# Altium footprint library Connector_PinHeader_2.54mm.PcbLib: 278 footprints (part 15 of 18)
Each footprint in its own frame and in the unit in brackets; x right, y up, seen from the top. Pads: shape width x height; smd on the part's side, far side on the other; paste and mask are expansions set on the pad; w line width, h text height; cw(c..) or ccw(c..) is an arc to the next point about the centre after c.
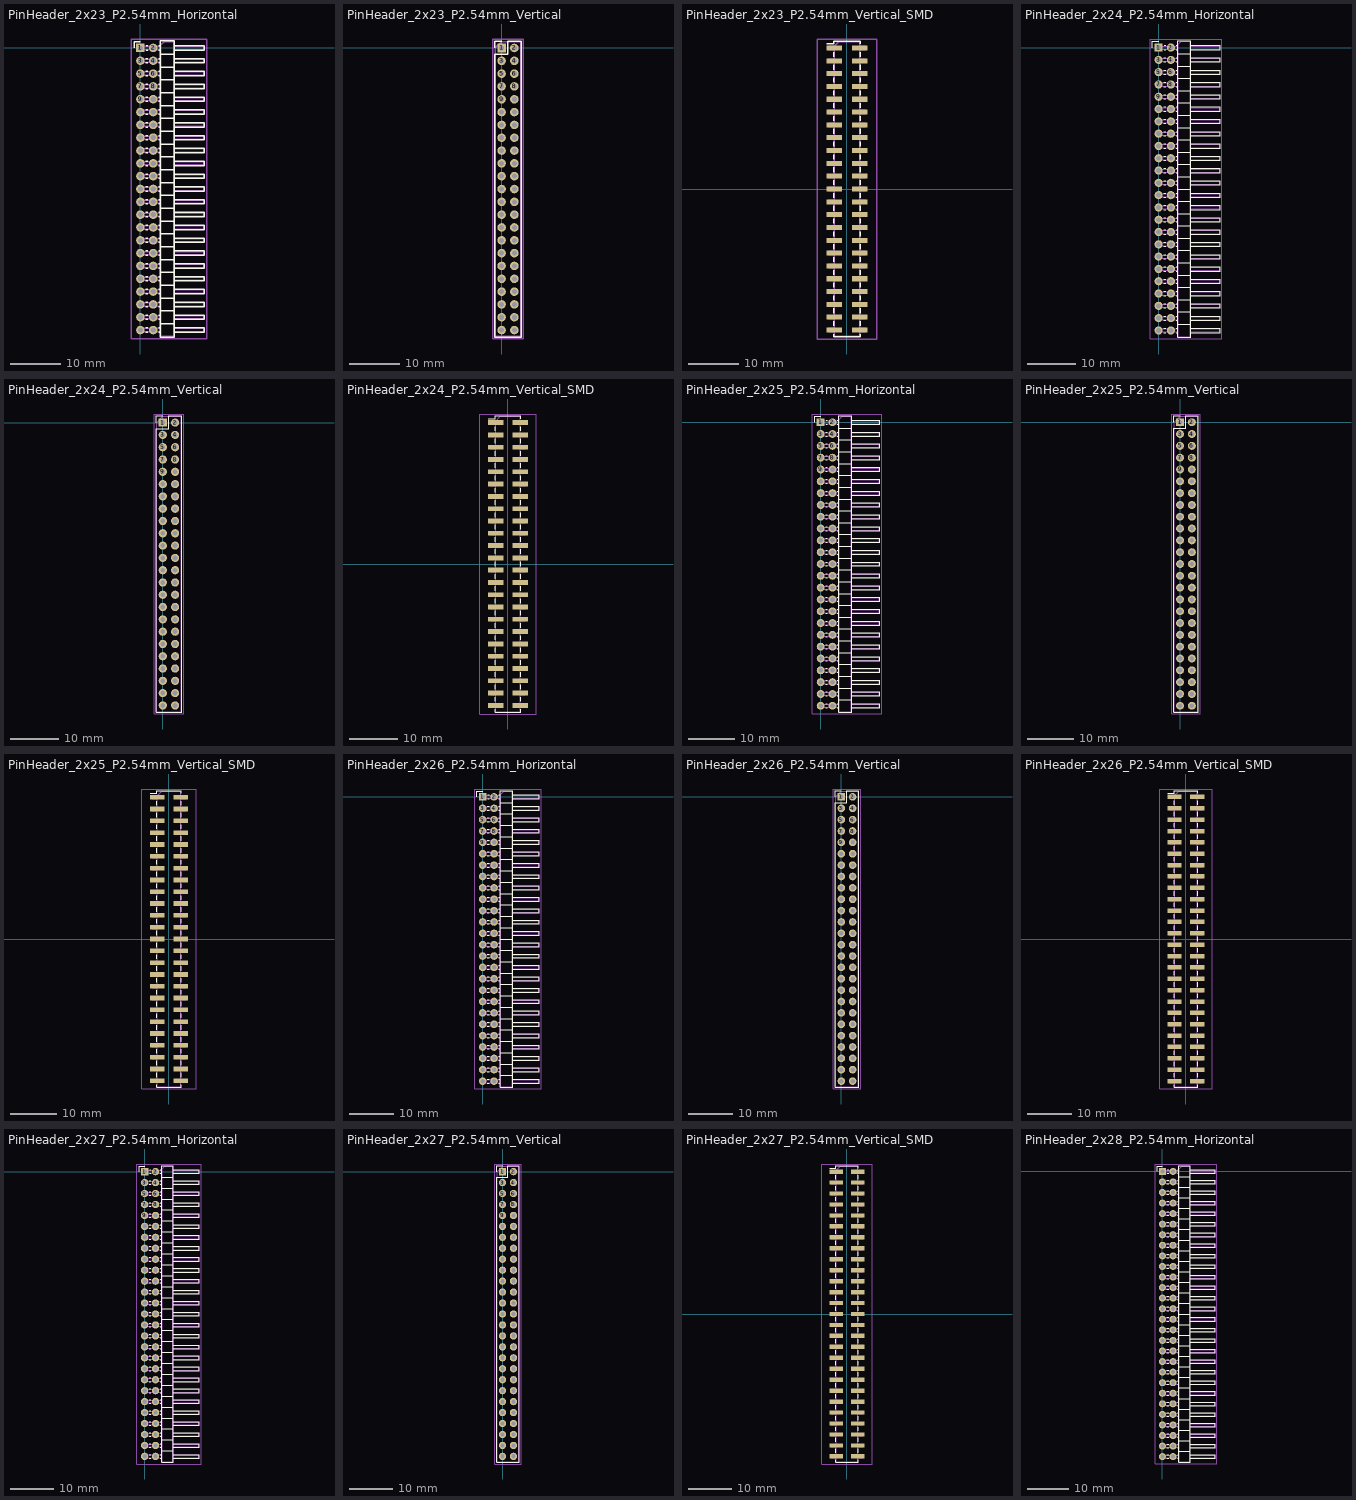
[diagram p14: the footprints below, top view; thin cyan lines are the x and y axes]

## PinHeader_2x23_P2.54mm_Horizontal [mm]
pads (46):
  rect 1.7x1.7 hole 1: 1(0,0)
  round 1.7 hole 1: 2(2.54,0) 3(0,-2.54) 4(2.54,-2.54) 5(0,-5.08) 6(2.54,-5.08) 7(0,-7.62) 8(2.54,-7.62) 9(0,-10.16) 10(2.54,-10.16) 11(0,-12.7) 12(2.54,-12.7) 13(0,-15.24) 14(2.54,-15.24) 15(0,-17.78) 16(2.54,-17.78) 17(0,-20.32) 18(2.54,-20.32) 19(0,-22.86) 20(2.54,-22.86) 21(0,-25.4) 22(2.54,-25.4) 23(0,-27.94) 24(2.54,-27.94) 25(0,-30.48) 26(2.54,-30.48) 27(0,-33.02) 28(2.54,-33.02) 29(0,-35.56) 30(2.54,-35.56) 31(0,-38.1) 32(2.54,-38.1) 33(0,-40.64) 34(2.54,-40.64) 35(0,-43.18) 36(2.54,-43.18) 37(0,-45.72) 38(2.54,-45.72) 39(0,-48.26) 40(2.54,-48.26) 41(0,-50.8) 42(2.54,-50.8) 43(0,-53.34) 44(2.54,-53.34) 45(0,-55.88) 46(2.54,-55.88)
F.SilkS:
  drawing of 190 lines, arcs and shapes, not listed
Top Assembly:
  lines w0.254: 4.04,-56.2 -0.32,-56.2 -0.32,-55.56 4.04,-55.56 ; 4.04,-53.66 -0.32,-53.66 -0.32,-53.02 4.04,-53.02 ; 4.04,-51.12 -0.32,-51.12 -0.32,-50.48 4.04,-50.48 ; 4.04,-48.58 -0.32,-48.58 -0.32,-47.94 4.04,-47.94 ; 4.04,-46.04 -0.32,-46.04 -0.32,-45.4 4.04,-45.4 ; 4.04,-43.5 -0.32,-43.5 -0.32,-42.86 4.04,-42.86 ; 4.04,-40.96 -0.32,-40.96 -0.32,-40.32 4.04,-40.32 ; 4.04,-38.42 -0.32,-38.42 -0.32,-37.78 4.04,-37.78 ; 4.04,-35.88 -0.32,-35.88 -0.32,-35.24 4.04,-35.24 ; 4.04,-33.34 -0.32,-33.34 -0.32,-32.7 4.04,-32.7 ; 4.04,-30.8 -0.32,-30.8 -0.32,-30.16 4.04,-30.16 ; 4.04,-28.26 -0.32,-28.26 -0.32,-27.62 4.04,-27.62 ; 4.04,-25.72 -0.32,-25.72 -0.32,-25.08 4.04,-25.08 ; 4.04,-23.18 -0.32,-23.18 -0.32,-22.54 4.04,-22.54 ; 4.04,-20.64 -0.32,-20.64 -0.32,-20 4.04,-20 ; 4.04,-18.1 -0.32,-18.1 -0.32,-17.46 4.04,-17.46 ; 4.04,-15.56 -0.32,-15.56 -0.32,-14.92 4.04,-14.92 ; 4.04,-13.02 -0.32,-13.02 -0.32,-12.38 4.04,-12.38 ; 4.04,-10.48 -0.32,-10.48 -0.32,-9.84 4.04,-9.84 ; 4.04,-7.94 -0.32,-7.94 -0.32,-7.3 4.04,-7.3 ; 4.04,-5.4 -0.32,-5.4 -0.32,-4.76 4.04,-4.76 ; 4.04,-2.86 -0.32,-2.86 -0.32,-2.22 4.04,-2.22 ; 4.04,-0.32 -0.32,-0.32 -0.32,0.32 4.04,0.32 ; 6.58,-56.2 12.58,-56.2 12.58,-55.56 6.58,-55.56 ; 6.58,-53.66 12.58,-53.66 12.58,-53.02 6.58,-53.02 ; 6.58,-51.12 12.58,-51.12 12.58,-50.48 6.58,-50.48 ; 6.58,-48.58 12.58,-48.58 12.58,-47.94 6.58,-47.94 ; 6.58,-46.04 12.58,-46.04 12.58,-45.4 6.58,-45.4 ; 6.58,-43.5 12.58,-43.5 12.58,-42.86 6.58,-42.86 ; 6.58,-40.96 12.58,-40.96 12.58,-40.32 6.58,-40.32 ; 6.58,-38.42 12.58,-38.42 12.58,-37.78 6.58,-37.78 ; 6.58,-35.88 12.58,-35.88 12.58,-35.24 6.58,-35.24 ; 6.58,-33.34 12.58,-33.34 12.58,-32.7 6.58,-32.7 ; 6.58,-30.8 12.58,-30.8 12.58,-30.16 6.58,-30.16 ; 6.58,-28.26 12.58,-28.26 12.58,-27.62 6.58,-27.62 ; 6.58,-25.72 12.58,-25.72 12.58,-25.08 6.58,-25.08 ; 6.58,-23.18 12.58,-23.18 12.58,-22.54 6.58,-22.54 ; 6.58,-20.64 12.58,-20.64 12.58,-20 6.58,-20 ; 6.58,-18.1 12.58,-18.1 12.58,-17.46 6.58,-17.46 ; 6.58,-15.56 12.58,-15.56 12.58,-14.92 6.58,-14.92 ; 6.58,-13.02 12.58,-13.02 12.58,-12.38 6.58,-12.38 ; 6.58,-10.48 12.58,-10.48 12.58,-9.84 6.58,-9.84 ; 6.58,-7.94 12.58,-7.94 12.58,-7.3 6.58,-7.3 ; 6.58,-5.4 12.58,-5.4 12.58,-4.76 6.58,-4.76 ; 6.58,-2.86 12.58,-2.86 12.58,-2.22 6.58,-2.22 ; 6.58,-0.32 12.58,-0.32 12.58,0.32 6.58,0.32 ; 4.04,-57.15 6.58,-57.15 6.58,1.27 4.675,1.27 4.04,0.635 4.04,-57.15
  text "'.Designator'" at 6.15,-31.987 h1
Top Courtyard:
  lines w0.254: -1.77,-57.65 13.09,-57.65 13.09,1.77 -1.77,1.77 -1.77,-57.65
Top Designator:
  text ".Designator" at -1.958,-28.448 h1.52

## PinHeader_2x23_P2.54mm_Vertical [mm]
pads (46):
  rect 1.7x1.7 hole 1: 1(0,0)
  round 1.7 hole 1: 2(2.54,0) 3(0,-2.54) 4(2.54,-2.54) 5(0,-5.08) 6(2.54,-5.08) 7(0,-7.62) 8(2.54,-7.62) 9(0,-10.16) 10(2.54,-10.16) 11(0,-12.7) 12(2.54,-12.7) 13(0,-15.24) 14(2.54,-15.24) 15(0,-17.78) 16(2.54,-17.78) 17(0,-20.32) 18(2.54,-20.32) 19(0,-22.86) 20(2.54,-22.86) 21(0,-25.4) 22(2.54,-25.4) 23(0,-27.94) 24(2.54,-27.94) 25(0,-30.48) 26(2.54,-30.48) 27(0,-33.02) 28(2.54,-33.02) 29(0,-35.56) 30(2.54,-35.56) 31(0,-38.1) 32(2.54,-38.1) 33(0,-40.64) 34(2.54,-40.64) 35(0,-43.18) 36(2.54,-43.18) 37(0,-45.72) 38(2.54,-45.72) 39(0,-48.26) 40(2.54,-48.26) 41(0,-50.8) 42(2.54,-50.8) 43(0,-53.34) 44(2.54,-53.34) 45(0,-55.88) 46(2.54,-55.88)
F.SilkS:
  lines w0.254: -1.38,0 -1.38,1.38 0,1.38 ; -1.38,-57.26 3.92,-57.26 3.92,1.38 1.27,1.38 1.27,-1.27 -1.38,-1.27 -1.38,-57.26
Top Assembly:
  lines w0.254: -1.27,-57.15 3.81,-57.15 3.81,1.27 0,1.27 -1.27,0 -1.27,-57.15
  text "'.Designator'" at 2.11,-31.987 h1
Top Courtyard:
  lines w0.254: -1.77,-57.65 4.32,-57.65 4.32,1.78 -1.77,1.78 -1.77,-57.65
Top Designator:
  text ".Designator" at -6.343,-28.443 h1.52

## PinHeader_2x23_P2.54mm_Vertical_SMD [mm]
pads (46):
  rect 3.15x1 smd: 1(-2.525,27.94) 2(2.525,27.94) 3(-2.525,25.4) 4(2.525,25.4) 5(-2.525,22.86) 6(2.525,22.86) 7(-2.525,20.32) 8(2.525,20.32) 9(-2.525,17.78) 10(2.525,17.78) 11(-2.525,15.24) 12(2.525,15.24) 13(-2.525,12.7) 14(2.525,12.7) 15(-2.525,10.16) 16(2.525,10.16) 17(-2.525,7.62) 18(2.525,7.62) 19(-2.525,5.08) 20(2.525,5.08) 21(-2.525,2.54) 22(2.525,2.54) 23(-2.525,0) 24(2.525,0) 25(-2.525,-2.54) 26(2.525,-2.54) 27(-2.525,-5.08) 28(2.525,-5.08) 29(-2.525,-7.62) 30(2.525,-7.62) 31(-2.525,-10.16) 32(2.525,-10.16) 33(-2.525,-12.7) 34(2.525,-12.7) 35(-2.525,-15.24) 36(2.525,-15.24) 37(-2.525,-17.78) 38(2.525,-17.78) 39(-2.525,-20.32) 40(2.525,-20.32) 41(-2.525,-22.86) 42(2.525,-22.86) 43(-2.525,-25.4) 44(2.525,-25.4) 45(-2.525,-27.94) 46(2.525,-27.94)
F.SilkS:
  lines w0.254: -4.04,28.75 -2.65,28.75 -2.65,29.32 2.65,29.32 2.65,28.75 ; -2.65,-28.75 -2.65,-29.32 2.65,-29.32 2.65,-28.75 ; -2.65,-27.13 -2.65,-26.21 ; -2.65,-24.59 -2.65,-23.67 ; -2.65,-22.05 -2.65,-21.13 ; -2.65,-19.51 -2.65,-18.59 ; -2.65,-16.97 -2.65,-16.05 ; -2.65,-14.43 -2.65,-13.51 ; -2.65,-11.89 -2.65,-10.97 ; -2.65,-9.35 -2.65,-8.43 ; -2.65,-6.81 -2.65,-5.89 ; -2.65,-4.27 -2.65,-3.35 ; -2.65,-1.73 -2.65,-0.81 ; -2.65,0.81 -2.65,1.73 ; -2.65,3.35 -2.65,4.27 ; -2.65,5.89 -2.65,6.81 ; -2.65,8.43 -2.65,9.35 ; -2.65,10.97 -2.65,11.89 ; -2.65,13.51 -2.65,14.43 ; -2.65,16.05 -2.65,16.97 ; -2.65,18.59 -2.65,19.51 ; -2.65,21.13 -2.65,22.05 ; -2.65,23.67 -2.65,24.59 ; -2.65,26.21 -2.65,27.13 ; 2.65,-27.13 2.65,-26.21 ; 2.65,-24.59 2.65,-23.67 ; 2.65,-22.05 2.65,-21.13 ; 2.65,-19.51 2.65,-18.59 ; 2.65,-16.97 2.65,-16.05 ; 2.65,-14.43 2.65,-13.51 ; 2.65,-11.89 2.65,-10.97 ; 2.65,-9.35 2.65,-8.43 ; 2.65,-6.81 2.65,-5.89 ; 2.65,-4.27 2.65,-3.35 ; 2.65,-1.73 2.65,-0.81 ; 2.65,0.81 2.65,1.73 ; 2.65,3.35 2.65,4.27 ; 2.65,5.89 2.65,6.81 ; 2.65,8.43 2.65,9.35 ; 2.65,10.97 2.65,11.89 ; 2.65,13.51 2.65,14.43 ; 2.65,16.05 2.65,16.97 ; 2.65,18.59 2.65,19.51 ; 2.65,21.13 2.65,22.05 ; 2.65,23.67 2.65,24.59 ; 2.65,26.21 2.65,27.13
Top Assembly:
  lines w0.254: -2.54,-28.26 -3.6,-28.26 -3.6,-27.62 -2.54,-27.62 ; -2.54,-25.72 -3.6,-25.72 -3.6,-25.08 -2.54,-25.08 ; -2.54,-23.18 -3.6,-23.18 -3.6,-22.54 -2.54,-22.54 ; -2.54,-20.64 -3.6,-20.64 -3.6,-20 -2.54,-20 ; -2.54,-18.1 -3.6,-18.1 -3.6,-17.46 -2.54,-17.46 ; -2.54,-15.56 -3.6,-15.56 -3.6,-14.92 -2.54,-14.92 ; -2.54,-13.02 -3.6,-13.02 -3.6,-12.38 -2.54,-12.38 ; -2.54,-10.48 -3.6,-10.48 -3.6,-9.84 -2.54,-9.84 ; -2.54,-7.94 -3.6,-7.94 -3.6,-7.3 -2.54,-7.3 ; -2.54,-5.4 -3.6,-5.4 -3.6,-4.76 -2.54,-4.76 ; -2.54,-2.86 -3.6,-2.86 -3.6,-2.22 -2.54,-2.22 ; -2.54,-0.32 -3.6,-0.32 -3.6,0.32 -2.54,0.32 ; -2.54,2.22 -3.6,2.22 -3.6,2.86 -2.54,2.86 ; -2.54,4.76 -3.6,4.76 -3.6,5.4 -2.54,5.4 ; -2.54,7.3 -3.6,7.3 -3.6,7.94 -2.54,7.94 ; -2.54,9.84 -3.6,9.84 -3.6,10.48 -2.54,10.48 ; -2.54,12.38 -3.6,12.38 -3.6,13.02 -2.54,13.02 ; -2.54,14.92 -3.6,14.92 -3.6,15.56 -2.54,15.56 ; -2.54,17.46 -3.6,17.46 -3.6,18.1 -2.54,18.1 ; -2.54,20 -3.6,20 -3.6,20.64 -2.54,20.64 ; -2.54,22.54 -3.6,22.54 -3.6,23.18 -2.54,23.18 ; -2.54,25.08 -3.6,25.08 -3.6,25.72 -2.54,25.72 ; -2.54,27.62 -3.6,27.62 -3.6,28.26 -2.54,28.26 ; 2.54,-28.26 3.6,-28.26 3.6,-27.62 2.54,-27.62 ; 2.54,-25.72 3.6,-25.72 3.6,-25.08 2.54,-25.08 ; 2.54,-23.18 3.6,-23.18 3.6,-22.54 2.54,-22.54 ; 2.54,-20.64 3.6,-20.64 3.6,-20 2.54,-20 ; 2.54,-18.1 3.6,-18.1 3.6,-17.46 2.54,-17.46 ; 2.54,-15.56 3.6,-15.56 3.6,-14.92 2.54,-14.92 ; 2.54,-13.02 3.6,-13.02 3.6,-12.38 2.54,-12.38 ; 2.54,-10.48 3.6,-10.48 3.6,-9.84 2.54,-9.84 ; 2.54,-7.94 3.6,-7.94 3.6,-7.3 2.54,-7.3 ; 2.54,-5.4 3.6,-5.4 3.6,-4.76 2.54,-4.76 ; 2.54,-2.86 3.6,-2.86 3.6,-2.22 2.54,-2.22 ; 2.54,-0.32 3.6,-0.32 3.6,0.32 2.54,0.32 ; 2.54,2.22 3.6,2.22 3.6,2.86 2.54,2.86 ; 2.54,4.76 3.6,4.76 3.6,5.4 2.54,5.4 ; 2.54,7.3 3.6,7.3 3.6,7.94 2.54,7.94 ; 2.54,9.84 3.6,9.84 3.6,10.48 2.54,10.48 ; 2.54,12.38 3.6,12.38 3.6,13.02 2.54,13.02 ; 2.54,14.92 3.6,14.92 3.6,15.56 2.54,15.56 ; 2.54,17.46 3.6,17.46 3.6,18.1 2.54,18.1 ; 2.54,20 3.6,20 3.6,20.64 2.54,20.64 ; 2.54,22.54 3.6,22.54 3.6,23.18 2.54,23.18 ; 2.54,25.08 3.6,25.08 3.6,25.72 2.54,25.72 ; 2.54,27.62 3.6,27.62 3.6,28.26 2.54,28.26 ; -2.54,28.26 -2.54,-29.21 2.54,-29.21 2.54,29.21 -1.59,29.21 -2.54,28.26
  text "'.Designator'" at 0.84,-4.047 h1
Top Courtyard:
  lines w0.254: -5.87,-29.72 5.88,-29.72 5.88,29.72 -5.87,29.72 -5.87,-29.72
Top Designator:
  text ".Designator" at -7.613,-0.508 h1.52

## PinHeader_2x24_P2.54mm_Horizontal [mm]
pads (48):
  rect 1.7x1.7 hole 1: 1(0,0)
  round 1.7 hole 1: 2(2.54,0) 3(0,-2.54) 4(2.54,-2.54) 5(0,-5.08) 6(2.54,-5.08) 7(0,-7.62) 8(2.54,-7.62) 9(0,-10.16) 10(2.54,-10.16) 11(0,-12.7) 12(2.54,-12.7) 13(0,-15.24) 14(2.54,-15.24) 15(0,-17.78) 16(2.54,-17.78) 17(0,-20.32) 18(2.54,-20.32) 19(0,-22.86) 20(2.54,-22.86) 21(0,-25.4) 22(2.54,-25.4) 23(0,-27.94) 24(2.54,-27.94) 25(0,-30.48) 26(2.54,-30.48) 27(0,-33.02) 28(2.54,-33.02) 29(0,-35.56) 30(2.54,-35.56) 31(0,-38.1) 32(2.54,-38.1) 33(0,-40.64) 34(2.54,-40.64) 35(0,-43.18) 36(2.54,-43.18) 37(0,-45.72) 38(2.54,-45.72) 39(0,-48.26) 40(2.54,-48.26) 41(0,-50.8) 42(2.54,-50.8) 43(0,-53.34) 44(2.54,-53.34) 45(0,-55.88) 46(2.54,-55.88) 47(0,-58.42) 48(2.54,-58.42)
F.SilkS:
  drawing of 198 lines, arcs and shapes, not listed
Top Assembly:
  lines w0.254: 4.04,-58.74 -0.32,-58.74 -0.32,-58.1 4.04,-58.1 ; 4.04,-56.2 -0.32,-56.2 -0.32,-55.56 4.04,-55.56 ; 4.04,-53.66 -0.32,-53.66 -0.32,-53.02 4.04,-53.02 ; 4.04,-51.12 -0.32,-51.12 -0.32,-50.48 4.04,-50.48 ; 4.04,-48.58 -0.32,-48.58 -0.32,-47.94 4.04,-47.94 ; 4.04,-46.04 -0.32,-46.04 -0.32,-45.4 4.04,-45.4 ; 4.04,-43.5 -0.32,-43.5 -0.32,-42.86 4.04,-42.86 ; 4.04,-40.96 -0.32,-40.96 -0.32,-40.32 4.04,-40.32 ; 4.04,-38.42 -0.32,-38.42 -0.32,-37.78 4.04,-37.78 ; 4.04,-35.88 -0.32,-35.88 -0.32,-35.24 4.04,-35.24 ; 4.04,-33.34 -0.32,-33.34 -0.32,-32.7 4.04,-32.7 ; 4.04,-30.8 -0.32,-30.8 -0.32,-30.16 4.04,-30.16 ; 4.04,-28.26 -0.32,-28.26 -0.32,-27.62 4.04,-27.62 ; 4.04,-25.72 -0.32,-25.72 -0.32,-25.08 4.04,-25.08 ; 4.04,-23.18 -0.32,-23.18 -0.32,-22.54 4.04,-22.54 ; 4.04,-20.64 -0.32,-20.64 -0.32,-20 4.04,-20 ; 4.04,-18.1 -0.32,-18.1 -0.32,-17.46 4.04,-17.46 ; 4.04,-15.56 -0.32,-15.56 -0.32,-14.92 4.04,-14.92 ; 4.04,-13.02 -0.32,-13.02 -0.32,-12.38 4.04,-12.38 ; 4.04,-10.48 -0.32,-10.48 -0.32,-9.84 4.04,-9.84 ; 4.04,-7.94 -0.32,-7.94 -0.32,-7.3 4.04,-7.3 ; 4.04,-5.4 -0.32,-5.4 -0.32,-4.76 4.04,-4.76 ; 4.04,-2.86 -0.32,-2.86 -0.32,-2.22 4.04,-2.22 ; 4.04,-0.32 -0.32,-0.32 -0.32,0.32 4.04,0.32 ; 6.58,-58.74 12.58,-58.74 12.58,-58.1 6.58,-58.1 ; 6.58,-56.2 12.58,-56.2 12.58,-55.56 6.58,-55.56 ; 6.58,-53.66 12.58,-53.66 12.58,-53.02 6.58,-53.02 ; 6.58,-51.12 12.58,-51.12 12.58,-50.48 6.58,-50.48 ; 6.58,-48.58 12.58,-48.58 12.58,-47.94 6.58,-47.94 ; 6.58,-46.04 12.58,-46.04 12.58,-45.4 6.58,-45.4 ; 6.58,-43.5 12.58,-43.5 12.58,-42.86 6.58,-42.86 ; 6.58,-40.96 12.58,-40.96 12.58,-40.32 6.58,-40.32 ; 6.58,-38.42 12.58,-38.42 12.58,-37.78 6.58,-37.78 ; 6.58,-35.88 12.58,-35.88 12.58,-35.24 6.58,-35.24 ; 6.58,-33.34 12.58,-33.34 12.58,-32.7 6.58,-32.7 ; 6.58,-30.8 12.58,-30.8 12.58,-30.16 6.58,-30.16 ; 6.58,-28.26 12.58,-28.26 12.58,-27.62 6.58,-27.62 ; 6.58,-25.72 12.58,-25.72 12.58,-25.08 6.58,-25.08 ; 6.58,-23.18 12.58,-23.18 12.58,-22.54 6.58,-22.54 ; 6.58,-20.64 12.58,-20.64 12.58,-20 6.58,-20 ; 6.58,-18.1 12.58,-18.1 12.58,-17.46 6.58,-17.46 ; 6.58,-15.56 12.58,-15.56 12.58,-14.92 6.58,-14.92 ; 6.58,-13.02 12.58,-13.02 12.58,-12.38 6.58,-12.38 ; 6.58,-10.48 12.58,-10.48 12.58,-9.84 6.58,-9.84 ; 6.58,-7.94 12.58,-7.94 12.58,-7.3 6.58,-7.3 ; 6.58,-5.4 12.58,-5.4 12.58,-4.76 6.58,-4.76 ; 6.58,-2.86 12.58,-2.86 12.58,-2.22 6.58,-2.22 ; 6.58,-0.32 12.58,-0.32 12.58,0.32 6.58,0.32 ; 4.04,-59.69 6.58,-59.69 6.58,1.27 4.675,1.27 4.04,0.635 4.04,-59.69
  text "'.Designator'" at 6.15,-33.257 h1
Top Courtyard:
  lines w0.254: -1.77,-60.19 13.09,-60.19 13.09,1.77 -1.77,1.77 -1.77,-60.19
Top Designator:
  text ".Designator" at -1.958,-29.718 h1.52

## PinHeader_2x24_P2.54mm_Vertical [mm]
pads (48):
  rect 1.7x1.7 hole 1: 1(0,0)
  round 1.7 hole 1: 2(2.54,0) 3(0,-2.54) 4(2.54,-2.54) 5(0,-5.08) 6(2.54,-5.08) 7(0,-7.62) 8(2.54,-7.62) 9(0,-10.16) 10(2.54,-10.16) 11(0,-12.7) 12(2.54,-12.7) 13(0,-15.24) 14(2.54,-15.24) 15(0,-17.78) 16(2.54,-17.78) 17(0,-20.32) 18(2.54,-20.32) 19(0,-22.86) 20(2.54,-22.86) 21(0,-25.4) 22(2.54,-25.4) 23(0,-27.94) 24(2.54,-27.94) 25(0,-30.48) 26(2.54,-30.48) 27(0,-33.02) 28(2.54,-33.02) 29(0,-35.56) 30(2.54,-35.56) 31(0,-38.1) 32(2.54,-38.1) 33(0,-40.64) 34(2.54,-40.64) 35(0,-43.18) 36(2.54,-43.18) 37(0,-45.72) 38(2.54,-45.72) 39(0,-48.26) 40(2.54,-48.26) 41(0,-50.8) 42(2.54,-50.8) 43(0,-53.34) 44(2.54,-53.34) 45(0,-55.88) 46(2.54,-55.88) 47(0,-58.42) 48(2.54,-58.42)
F.SilkS:
  lines w0.254: -1.38,0 -1.38,1.38 0,1.38 ; -1.38,-59.8 3.92,-59.8 3.92,1.38 1.27,1.38 1.27,-1.27 -1.38,-1.27 -1.38,-59.8
Top Assembly:
  lines w0.254: -1.27,-59.69 3.81,-59.69 3.81,1.27 0,1.27 -1.27,0 -1.27,-59.69
  text "'.Designator'" at 2.11,-33.257 h1
Top Courtyard:
  lines w0.254: -1.77,-60.19 4.32,-60.19 4.32,1.78 -1.77,1.78 -1.77,-60.19
Top Designator:
  text ".Designator" at -6.343,-29.713 h1.52

## PinHeader_2x24_P2.54mm_Vertical_SMD [mm]
pads (48):
  rect 3.15x1 smd: 1(-2.525,29.21) 2(2.525,29.21) 3(-2.525,26.67) 4(2.525,26.67) 5(-2.525,24.13) 6(2.525,24.13) 7(-2.525,21.59) 8(2.525,21.59) 9(-2.525,19.05) 10(2.525,19.05) 11(-2.525,16.51) 12(2.525,16.51) 13(-2.525,13.97) 14(2.525,13.97) 15(-2.525,11.43) 16(2.525,11.43) 17(-2.525,8.89) 18(2.525,8.89) 19(-2.525,6.35) 20(2.525,6.35) 21(-2.525,3.81) 22(2.525,3.81) 23(-2.525,1.27) 24(2.525,1.27) 25(-2.525,-1.27) 26(2.525,-1.27) 27(-2.525,-3.81) 28(2.525,-3.81) 29(-2.525,-6.35) 30(2.525,-6.35) 31(-2.525,-8.89) 32(2.525,-8.89) 33(-2.525,-11.43) 34(2.525,-11.43) 35(-2.525,-13.97) 36(2.525,-13.97) 37(-2.525,-16.51) 38(2.525,-16.51) 39(-2.525,-19.05) 40(2.525,-19.05) 41(-2.525,-21.59) 42(2.525,-21.59) 43(-2.525,-24.13) 44(2.525,-24.13) 45(-2.525,-26.67) 46(2.525,-26.67) 47(-2.525,-29.21) 48(2.525,-29.21)
F.SilkS:
  lines w0.254: -4.04,30.02 -2.65,30.02 -2.65,30.59 2.65,30.59 2.65,30.02 ; -2.65,-30.02 -2.65,-30.59 2.65,-30.59 2.65,-30.02 ; -2.65,-28.4 -2.65,-27.48 ; -2.65,-25.86 -2.65,-24.94 ; -2.65,-23.32 -2.65,-22.4 ; -2.65,-20.78 -2.65,-19.86 ; -2.65,-18.24 -2.65,-17.32 ; -2.65,-15.7 -2.65,-14.78 ; -2.65,-13.16 -2.65,-12.24 ; -2.65,-10.62 -2.65,-9.7 ; -2.65,-8.08 -2.65,-7.16 ; -2.65,-5.54 -2.65,-4.62 ; -2.65,-3 -2.65,-2.08 ; -2.65,-0.46 -2.65,0.46 ; -2.65,2.08 -2.65,3 ; -2.65,4.62 -2.65,5.54 ; -2.65,7.16 -2.65,8.08 ; -2.65,9.7 -2.65,10.62 ; -2.65,12.24 -2.65,13.16 ; -2.65,14.78 -2.65,15.7 ; -2.65,17.32 -2.65,18.24 ; -2.65,19.86 -2.65,20.78 ; -2.65,22.4 -2.65,23.32 ; -2.65,24.94 -2.65,25.86 ; -2.65,27.48 -2.65,28.4 ; 2.65,-28.4 2.65,-27.48 ; 2.65,-25.86 2.65,-24.94 ; 2.65,-23.32 2.65,-22.4 ; 2.65,-20.78 2.65,-19.86 ; 2.65,-18.24 2.65,-17.32 ; 2.65,-15.7 2.65,-14.78 ; 2.65,-13.16 2.65,-12.24 ; 2.65,-10.62 2.65,-9.7 ; 2.65,-8.08 2.65,-7.16 ; 2.65,-5.54 2.65,-4.62 ; 2.65,-3 2.65,-2.08 ; 2.65,-0.46 2.65,0.46 ; 2.65,2.08 2.65,3 ; 2.65,4.62 2.65,5.54 ; 2.65,7.16 2.65,8.08 ; 2.65,9.7 2.65,10.62 ; 2.65,12.24 2.65,13.16 ; 2.65,14.78 2.65,15.7 ; 2.65,17.32 2.65,18.24 ; 2.65,19.86 2.65,20.78 ; 2.65,22.4 2.65,23.32 ; 2.65,24.94 2.65,25.86 ; 2.65,27.48 2.65,28.4
Top Assembly:
  lines w0.254: -2.54,-29.53 -3.6,-29.53 -3.6,-28.89 -2.54,-28.89 ; -2.54,-26.99 -3.6,-26.99 -3.6,-26.35 -2.54,-26.35 ; -2.54,-24.45 -3.6,-24.45 -3.6,-23.81 -2.54,-23.81 ; -2.54,-21.91 -3.6,-21.91 -3.6,-21.27 -2.54,-21.27 ; -2.54,-19.37 -3.6,-19.37 -3.6,-18.73 -2.54,-18.73 ; -2.54,-16.83 -3.6,-16.83 -3.6,-16.19 -2.54,-16.19 ; -2.54,-14.29 -3.6,-14.29 -3.6,-13.65 -2.54,-13.65 ; -2.54,-11.75 -3.6,-11.75 -3.6,-11.11 -2.54,-11.11 ; -2.54,-9.21 -3.6,-9.21 -3.6,-8.57 -2.54,-8.57 ; -2.54,-6.67 -3.6,-6.67 -3.6,-6.03 -2.54,-6.03 ; -2.54,-4.13 -3.6,-4.13 -3.6,-3.49 -2.54,-3.49 ; -2.54,-1.59 -3.6,-1.59 -3.6,-0.95 -2.54,-0.95 ; -2.54,0.95 -3.6,0.95 -3.6,1.59 -2.54,1.59 ; -2.54,3.49 -3.6,3.49 -3.6,4.13 -2.54,4.13 ; -2.54,6.03 -3.6,6.03 -3.6,6.67 -2.54,6.67 ; -2.54,8.57 -3.6,8.57 -3.6,9.21 -2.54,9.21 ; -2.54,11.11 -3.6,11.11 -3.6,11.75 -2.54,11.75 ; -2.54,13.65 -3.6,13.65 -3.6,14.29 -2.54,14.29 ; -2.54,16.19 -3.6,16.19 -3.6,16.83 -2.54,16.83 ; -2.54,18.73 -3.6,18.73 -3.6,19.37 -2.54,19.37 ; -2.54,21.27 -3.6,21.27 -3.6,21.91 -2.54,21.91 ; -2.54,23.81 -3.6,23.81 -3.6,24.45 -2.54,24.45 ; -2.54,26.35 -3.6,26.35 -3.6,26.99 -2.54,26.99 ; -2.54,28.89 -3.6,28.89 -3.6,29.53 -2.54,29.53 ; 2.54,-29.53 3.6,-29.53 3.6,-28.89 2.54,-28.89 ; 2.54,-26.99 3.6,-26.99 3.6,-26.35 2.54,-26.35 ; 2.54,-24.45 3.6,-24.45 3.6,-23.81 2.54,-23.81 ; 2.54,-21.91 3.6,-21.91 3.6,-21.27 2.54,-21.27 ; 2.54,-19.37 3.6,-19.37 3.6,-18.73 2.54,-18.73 ; 2.54,-16.83 3.6,-16.83 3.6,-16.19 2.54,-16.19 ; 2.54,-14.29 3.6,-14.29 3.6,-13.65 2.54,-13.65 ; 2.54,-11.75 3.6,-11.75 3.6,-11.11 2.54,-11.11 ; 2.54,-9.21 3.6,-9.21 3.6,-8.57 2.54,-8.57 ; 2.54,-6.67 3.6,-6.67 3.6,-6.03 2.54,-6.03 ; 2.54,-4.13 3.6,-4.13 3.6,-3.49 2.54,-3.49 ; 2.54,-1.59 3.6,-1.59 3.6,-0.95 2.54,-0.95 ; 2.54,0.95 3.6,0.95 3.6,1.59 2.54,1.59 ; 2.54,3.49 3.6,3.49 3.6,4.13 2.54,4.13 ; 2.54,6.03 3.6,6.03 3.6,6.67 2.54,6.67 ; 2.54,8.57 3.6,8.57 3.6,9.21 2.54,9.21 ; 2.54,11.11 3.6,11.11 3.6,11.75 2.54,11.75 ; 2.54,13.65 3.6,13.65 3.6,14.29 2.54,14.29 ; 2.54,16.19 3.6,16.19 3.6,16.83 2.54,16.83 ; 2.54,18.73 3.6,18.73 3.6,19.37 2.54,19.37 ; 2.54,21.27 3.6,21.27 3.6,21.91 2.54,21.91 ; 2.54,23.81 3.6,23.81 3.6,24.45 2.54,24.45 ; 2.54,26.35 3.6,26.35 3.6,26.99 2.54,26.99 ; 2.54,28.89 3.6,28.89 3.6,29.53 2.54,29.53 ; -2.54,29.53 -2.54,-30.48 2.54,-30.48 2.54,30.48 -1.59,30.48 -2.54,29.53
  text "'.Designator'" at 0.84,-4.047 h1
Top Courtyard:
  lines w0.254: -5.87,-30.99 5.88,-30.99 5.88,30.99 -5.87,30.99 -5.87,-30.99
Top Designator:
  text ".Designator" at -7.613,-0.508 h1.52

## PinHeader_2x25_P2.54mm_Horizontal [mm]
pads (50):
  rect 1.7x1.7 hole 1: 1(0,0)
  round 1.7 hole 1: 2(2.54,0) 3(0,-2.54) 4(2.54,-2.54) 5(0,-5.08) 6(2.54,-5.08) 7(0,-7.62) 8(2.54,-7.62) 9(0,-10.16) 10(2.54,-10.16) 11(0,-12.7) 12(2.54,-12.7) 13(0,-15.24) 14(2.54,-15.24) 15(0,-17.78) 16(2.54,-17.78) 17(0,-20.32) 18(2.54,-20.32) 19(0,-22.86) 20(2.54,-22.86) 21(0,-25.4) 22(2.54,-25.4) 23(0,-27.94) 24(2.54,-27.94) 25(0,-30.48) 26(2.54,-30.48) 27(0,-33.02) 28(2.54,-33.02) 29(0,-35.56) 30(2.54,-35.56) 31(0,-38.1) 32(2.54,-38.1) 33(0,-40.64) 34(2.54,-40.64) 35(0,-43.18) 36(2.54,-43.18) 37(0,-45.72) 38(2.54,-45.72) 39(0,-48.26) 40(2.54,-48.26) 41(0,-50.8) 42(2.54,-50.8) 43(0,-53.34) 44(2.54,-53.34) 45(0,-55.88) 46(2.54,-55.88) 47(0,-58.42) 48(2.54,-58.42) 49(0,-60.96) 50(2.54,-60.96)
F.SilkS:
  drawing of 206 lines, arcs and shapes, not listed
Top Assembly:
  drawing of 155 lines, arcs and shapes, not listed
  text "'.Designator'" at 6.15,-34.527 h1
Top Courtyard:
  lines w0.254: -1.77,-62.73 13.09,-62.73 13.09,1.77 -1.77,1.77 -1.77,-62.73
Top Designator:
  text ".Designator" at -1.958,-30.988 h1.52

## PinHeader_2x25_P2.54mm_Vertical [mm]
pads (50):
  rect 1.7x1.7 hole 1: 1(0,0)
  round 1.7 hole 1: 2(2.54,0) 3(0,-2.54) 4(2.54,-2.54) 5(0,-5.08) 6(2.54,-5.08) 7(0,-7.62) 8(2.54,-7.62) 9(0,-10.16) 10(2.54,-10.16) 11(0,-12.7) 12(2.54,-12.7) 13(0,-15.24) 14(2.54,-15.24) 15(0,-17.78) 16(2.54,-17.78) 17(0,-20.32) 18(2.54,-20.32) 19(0,-22.86) 20(2.54,-22.86) 21(0,-25.4) 22(2.54,-25.4) 23(0,-27.94) 24(2.54,-27.94) 25(0,-30.48) 26(2.54,-30.48) 27(0,-33.02) 28(2.54,-33.02) 29(0,-35.56) 30(2.54,-35.56) 31(0,-38.1) 32(2.54,-38.1) 33(0,-40.64) 34(2.54,-40.64) 35(0,-43.18) 36(2.54,-43.18) 37(0,-45.72) 38(2.54,-45.72) 39(0,-48.26) 40(2.54,-48.26) 41(0,-50.8) 42(2.54,-50.8) 43(0,-53.34) 44(2.54,-53.34) 45(0,-55.88) 46(2.54,-55.88) 47(0,-58.42) 48(2.54,-58.42) 49(0,-60.96) 50(2.54,-60.96)
F.SilkS:
  lines w0.254: -1.38,0 -1.38,1.38 0,1.38 ; -1.38,-62.34 3.92,-62.34 3.92,1.38 1.27,1.38 1.27,-1.27 -1.38,-1.27 -1.38,-62.34
Top Assembly:
  lines w0.254: -1.27,-62.23 3.81,-62.23 3.81,1.27 0,1.27 -1.27,0 -1.27,-62.23
  text "'.Designator'" at 2.11,-34.527 h1
Top Courtyard:
  lines w0.254: -1.77,-62.73 4.32,-62.73 4.32,1.77 -1.77,1.77 -1.77,-62.73
Top Designator:
  text ".Designator" at -6.343,-30.988 h1.52

## PinHeader_2x25_P2.54mm_Vertical_SMD [mm]
pads (50):
  rect 3.15x1 smd: 1(-2.525,30.48) 2(2.525,30.48) 3(-2.525,27.94) 4(2.525,27.94) 5(-2.525,25.4) 6(2.525,25.4) 7(-2.525,22.86) 8(2.525,22.86) 9(-2.525,20.32) 10(2.525,20.32) 11(-2.525,17.78) 12(2.525,17.78) 13(-2.525,15.24) 14(2.525,15.24) 15(-2.525,12.7) 16(2.525,12.7) 17(-2.525,10.16) 18(2.525,10.16) 19(-2.525,7.62) 20(2.525,7.62) 21(-2.525,5.08) 22(2.525,5.08) 23(-2.525,2.54) 24(2.525,2.54) 25(-2.525,0) 26(2.525,0) 27(-2.525,-2.54) 28(2.525,-2.54) 29(-2.525,-5.08) 30(2.525,-5.08) 31(-2.525,-7.62) 32(2.525,-7.62) 33(-2.525,-10.16) 34(2.525,-10.16) 35(-2.525,-12.7) 36(2.525,-12.7) 37(-2.525,-15.24) 38(2.525,-15.24) 39(-2.525,-17.78) 40(2.525,-17.78) 41(-2.525,-20.32) 42(2.525,-20.32) 43(-2.525,-22.86) 44(2.525,-22.86) 45(-2.525,-25.4) 46(2.525,-25.4) 47(-2.525,-27.94) 48(2.525,-27.94) 49(-2.525,-30.48) 50(2.525,-30.48)
F.SilkS:
  lines w0.254: -4.04,31.29 -2.65,31.29 -2.65,31.86 2.65,31.86 2.65,31.29 ; -2.65,-31.29 -2.65,-31.86 2.65,-31.86 2.65,-31.29 ; -2.65,-29.67 -2.65,-28.75 ; -2.65,-27.13 -2.65,-26.21 ; -2.65,-24.59 -2.65,-23.67 ; -2.65,-22.05 -2.65,-21.13 ; -2.65,-19.51 -2.65,-18.59 ; -2.65,-16.97 -2.65,-16.05 ; -2.65,-14.43 -2.65,-13.51 ; -2.65,-11.89 -2.65,-10.97 ; -2.65,-9.35 -2.65,-8.43 ; -2.65,-6.81 -2.65,-5.89 ; -2.65,-4.27 -2.65,-3.35 ; -2.65,-1.73 -2.65,-0.81 ; -2.65,0.81 -2.65,1.73 ; -2.65,3.35 -2.65,4.27 ; -2.65,5.89 -2.65,6.81 ; -2.65,8.43 -2.65,9.35 ; -2.65,10.97 -2.65,11.89 ; -2.65,13.51 -2.65,14.43 ; -2.65,16.05 -2.65,16.97 ; -2.65,18.59 -2.65,19.51 ; -2.65,21.13 -2.65,22.05 ; -2.65,23.67 -2.65,24.59 ; -2.65,26.21 -2.65,27.13 ; -2.65,28.75 -2.65,29.67 ; 2.65,-29.67 2.65,-28.75 ; 2.65,-27.13 2.65,-26.21 ; 2.65,-24.59 2.65,-23.67 ; 2.65,-22.05 2.65,-21.13 ; 2.65,-19.51 2.65,-18.59 ; 2.65,-16.97 2.65,-16.05 ; 2.65,-14.43 2.65,-13.51 ; 2.65,-11.89 2.65,-10.97 ; 2.65,-9.35 2.65,-8.43 ; 2.65,-6.81 2.65,-5.89 ; 2.65,-4.27 2.65,-3.35 ; 2.65,-1.73 2.65,-0.81 ; 2.65,0.81 2.65,1.73 ; 2.65,3.35 2.65,4.27 ; 2.65,5.89 2.65,6.81 ; 2.65,8.43 2.65,9.35 ; 2.65,10.97 2.65,11.89 ; 2.65,13.51 2.65,14.43 ; 2.65,16.05 2.65,16.97 ; 2.65,18.59 2.65,19.51 ; 2.65,21.13 2.65,22.05 ; 2.65,23.67 2.65,24.59 ; 2.65,26.21 2.65,27.13 ; 2.65,28.75 2.65,29.67
Top Assembly:
  drawing of 155 lines, arcs and shapes, not listed
  text "'.Designator'" at 0.84,-4.047 h1
Top Courtyard:
  lines w0.254: -5.87,-32.25 5.88,-32.25 5.88,32.25 -5.87,32.25 -5.87,-32.25
Top Designator:
  text ".Designator" at -7.613,-0.508 h1.52

## PinHeader_2x26_P2.54mm_Horizontal [mm]
pads (52):
  rect 1.7x1.7 hole 1: 1(0,0)
  round 1.7 hole 1: 2(2.54,0) 3(0,-2.54) 4(2.54,-2.54) 5(0,-5.08) 6(2.54,-5.08) 7(0,-7.62) 8(2.54,-7.62) 9(0,-10.16) 10(2.54,-10.16) 11(0,-12.7) 12(2.54,-12.7) 13(0,-15.24) 14(2.54,-15.24) 15(0,-17.78) 16(2.54,-17.78) 17(0,-20.32) 18(2.54,-20.32) 19(0,-22.86) 20(2.54,-22.86) 21(0,-25.4) 22(2.54,-25.4) 23(0,-27.94) 24(2.54,-27.94) 25(0,-30.48) 26(2.54,-30.48) 27(0,-33.02) 28(2.54,-33.02) 29(0,-35.56) 30(2.54,-35.56) 31(0,-38.1) 32(2.54,-38.1) 33(0,-40.64) 34(2.54,-40.64) 35(0,-43.18) 36(2.54,-43.18) 37(0,-45.72) 38(2.54,-45.72) 39(0,-48.26) 40(2.54,-48.26) 41(0,-50.8) 42(2.54,-50.8) 43(0,-53.34) 44(2.54,-53.34) 45(0,-55.88) 46(2.54,-55.88) 47(0,-58.42) 48(2.54,-58.42) 49(0,-60.96) 50(2.54,-60.96) 51(0,-63.5) 52(2.54,-63.5)
F.SilkS:
  drawing of 214 lines, arcs and shapes, not listed
Top Assembly:
  drawing of 161 lines, arcs and shapes, not listed
  text "'.Designator'" at 6.15,-35.797 h1
Top Courtyard:
  lines w0.254: -1.77,-65.27 13.09,-65.27 13.09,1.77 -1.77,1.77 -1.77,-65.27
Top Designator:
  text ".Designator" at -1.958,-32.258 h1.52

## PinHeader_2x26_P2.54mm_Vertical [mm]
pads (52):
  rect 1.7x1.7 hole 1: 1(0,0)
  round 1.7 hole 1: 2(2.54,0) 3(0,-2.54) 4(2.54,-2.54) 5(0,-5.08) 6(2.54,-5.08) 7(0,-7.62) 8(2.54,-7.62) 9(0,-10.16) 10(2.54,-10.16) 11(0,-12.7) 12(2.54,-12.7) 13(0,-15.24) 14(2.54,-15.24) 15(0,-17.78) 16(2.54,-17.78) 17(0,-20.32) 18(2.54,-20.32) 19(0,-22.86) 20(2.54,-22.86) 21(0,-25.4) 22(2.54,-25.4) 23(0,-27.94) 24(2.54,-27.94) 25(0,-30.48) 26(2.54,-30.48) 27(0,-33.02) 28(2.54,-33.02) 29(0,-35.56) 30(2.54,-35.56) 31(0,-38.1) 32(2.54,-38.1) 33(0,-40.64) 34(2.54,-40.64) 35(0,-43.18) 36(2.54,-43.18) 37(0,-45.72) 38(2.54,-45.72) 39(0,-48.26) 40(2.54,-48.26) 41(0,-50.8) 42(2.54,-50.8) 43(0,-53.34) 44(2.54,-53.34) 45(0,-55.88) 46(2.54,-55.88) 47(0,-58.42) 48(2.54,-58.42) 49(0,-60.96) 50(2.54,-60.96) 51(0,-63.5) 52(2.54,-63.5)
F.SilkS:
  lines w0.254: -1.38,0 -1.38,1.38 0,1.38 ; -1.38,-64.88 3.92,-64.88 3.92,1.38 1.27,1.38 1.27,-1.27 -1.38,-1.27 -1.38,-64.88
Top Assembly:
  lines w0.254: -1.27,-64.77 3.81,-64.77 3.81,1.27 0,1.27 -1.27,0 -1.27,-64.77
  text "'.Designator'" at 2.11,-35.797 h1
Top Courtyard:
  lines w0.254: -1.77,-65.27 4.32,-65.27 4.32,1.77 -1.77,1.77 -1.77,-65.27
Top Designator:
  text ".Designator" at -6.343,-32.258 h1.52

## PinHeader_2x26_P2.54mm_Vertical_SMD [mm]
pads (52):
  rect 3.15x1 smd: 1(-2.525,31.75) 2(2.525,31.75) 3(-2.525,29.21) 4(2.525,29.21) 5(-2.525,26.67) 6(2.525,26.67) 7(-2.525,24.13) 8(2.525,24.13) 9(-2.525,21.59) 10(2.525,21.59) 11(-2.525,19.05) 12(2.525,19.05) 13(-2.525,16.51) 14(2.525,16.51) 15(-2.525,13.97) 16(2.525,13.97) 17(-2.525,11.43) 18(2.525,11.43) 19(-2.525,8.89) 20(2.525,8.89) 21(-2.525,6.35) 22(2.525,6.35) 23(-2.525,3.81) 24(2.525,3.81) 25(-2.525,1.27) 26(2.525,1.27) 27(-2.525,-1.27) 28(2.525,-1.27) 29(-2.525,-3.81) 30(2.525,-3.81) 31(-2.525,-6.35) 32(2.525,-6.35) 33(-2.525,-8.89) 34(2.525,-8.89) 35(-2.525,-11.43) 36(2.525,-11.43) 37(-2.525,-13.97) 38(2.525,-13.97) 39(-2.525,-16.51) 40(2.525,-16.51) 41(-2.525,-19.05) 42(2.525,-19.05) 43(-2.525,-21.59) 44(2.525,-21.59) 45(-2.525,-24.13) 46(2.525,-24.13) 47(-2.525,-26.67) 48(2.525,-26.67) 49(-2.525,-29.21) 50(2.525,-29.21) 51(-2.525,-31.75) 52(2.525,-31.75)
F.SilkS:
  lines w0.254: -4.04,32.56 -2.65,32.56 -2.65,33.13 2.65,33.13 2.65,32.56 ; -2.65,-32.56 -2.65,-33.13 2.65,-33.13 2.65,-32.56 ; -2.65,-30.94 -2.65,-30.02 ; -2.65,-28.4 -2.65,-27.48 ; -2.65,-25.86 -2.65,-24.94 ; -2.65,-23.32 -2.65,-22.4 ; -2.65,-20.78 -2.65,-19.86 ; -2.65,-18.24 -2.65,-17.32 ; -2.65,-15.7 -2.65,-14.78 ; -2.65,-13.16 -2.65,-12.24 ; -2.65,-10.62 -2.65,-9.7 ; -2.65,-8.08 -2.65,-7.16 ; -2.65,-5.54 -2.65,-4.62 ; -2.65,-3 -2.65,-2.08 ; -2.65,-0.46 -2.65,0.46 ; -2.65,2.08 -2.65,3 ; -2.65,4.62 -2.65,5.54 ; -2.65,7.16 -2.65,8.08 ; -2.65,9.7 -2.65,10.62 ; -2.65,12.24 -2.65,13.16 ; -2.65,14.78 -2.65,15.7 ; -2.65,17.32 -2.65,18.24 ; -2.65,19.86 -2.65,20.78 ; -2.65,22.4 -2.65,23.32 ; -2.65,24.94 -2.65,25.86 ; -2.65,27.48 -2.65,28.4 ; -2.65,30.02 -2.65,30.94 ; 2.65,-30.94 2.65,-30.02 ; 2.65,-28.4 2.65,-27.48 ; 2.65,-25.86 2.65,-24.94 ; 2.65,-23.32 2.65,-22.4 ; 2.65,-20.78 2.65,-19.86 ; 2.65,-18.24 2.65,-17.32 ; 2.65,-15.7 2.65,-14.78 ; 2.65,-13.16 2.65,-12.24 ; 2.65,-10.62 2.65,-9.7 ; 2.65,-8.08 2.65,-7.16 ; 2.65,-5.54 2.65,-4.62 ; 2.65,-3 2.65,-2.08 ; 2.65,-0.46 2.65,0.46 ; 2.65,2.08 2.65,3 ; 2.65,4.62 2.65,5.54 ; 2.65,7.16 2.65,8.08 ; 2.65,9.7 2.65,10.62 ; 2.65,12.24 2.65,13.16 ; 2.65,14.78 2.65,15.7 ; 2.65,17.32 2.65,18.24 ; 2.65,19.86 2.65,20.78 ; 2.65,22.4 2.65,23.32 ; 2.65,24.94 2.65,25.86 ; 2.65,27.48 2.65,28.4 ; 2.65,30.02 2.65,30.94
Top Assembly:
  drawing of 161 lines, arcs and shapes, not listed
  text "'.Designator'" at 0.84,-4.047 h1
Top Courtyard:
  lines w0.254: -5.87,-33.52 5.88,-33.52 5.88,33.52 -5.87,33.52 -5.87,-33.52
Top Designator:
  text ".Designator" at -7.613,-0.508 h1.52

## PinHeader_2x27_P2.54mm_Horizontal [mm]
pads (54):
  rect 1.7x1.7 hole 1: 1(0,0)
  round 1.7 hole 1: 2(2.54,0) 3(0,-2.54) 4(2.54,-2.54) 5(0,-5.08) 6(2.54,-5.08) 7(0,-7.62) 8(2.54,-7.62) 9(0,-10.16) 10(2.54,-10.16) 11(0,-12.7) 12(2.54,-12.7) 13(0,-15.24) 14(2.54,-15.24) 15(0,-17.78) 16(2.54,-17.78) 17(0,-20.32) 18(2.54,-20.32) 19(0,-22.86) 20(2.54,-22.86) 21(0,-25.4) 22(2.54,-25.4) 23(0,-27.94) 24(2.54,-27.94) 25(0,-30.48) 26(2.54,-30.48) 27(0,-33.02) 28(2.54,-33.02) 29(0,-35.56) 30(2.54,-35.56) 31(0,-38.1) 32(2.54,-38.1) 33(0,-40.64) 34(2.54,-40.64) 35(0,-43.18) 36(2.54,-43.18) 37(0,-45.72) 38(2.54,-45.72) 39(0,-48.26) 40(2.54,-48.26) 41(0,-50.8) 42(2.54,-50.8) 43(0,-53.34) 44(2.54,-53.34) 45(0,-55.88) 46(2.54,-55.88) 47(0,-58.42) 48(2.54,-58.42) 49(0,-60.96) 50(2.54,-60.96) 51(0,-63.5) 52(2.54,-63.5) 53(0,-66.04) 54(2.54,-66.04)
F.SilkS:
  drawing of 222 lines, arcs and shapes, not listed
Top Assembly:
  drawing of 167 lines, arcs and shapes, not listed
  text "'.Designator'" at 6.15,-37.067 h1
Top Courtyard:
  lines w0.254: -1.77,-67.81 13.09,-67.81 13.09,1.77 -1.77,1.77 -1.77,-67.81
Top Designator:
  text ".Designator" at -1.958,-33.528 h1.52

## PinHeader_2x27_P2.54mm_Vertical [mm]
pads (54):
  rect 1.7x1.7 hole 1: 1(0,0)
  round 1.7 hole 1: 2(2.54,0) 3(0,-2.54) 4(2.54,-2.54) 5(0,-5.08) 6(2.54,-5.08) 7(0,-7.62) 8(2.54,-7.62) 9(0,-10.16) 10(2.54,-10.16) 11(0,-12.7) 12(2.54,-12.7) 13(0,-15.24) 14(2.54,-15.24) 15(0,-17.78) 16(2.54,-17.78) 17(0,-20.32) 18(2.54,-20.32) 19(0,-22.86) 20(2.54,-22.86) 21(0,-25.4) 22(2.54,-25.4) 23(0,-27.94) 24(2.54,-27.94) 25(0,-30.48) 26(2.54,-30.48) 27(0,-33.02) 28(2.54,-33.02) 29(0,-35.56) 30(2.54,-35.56) 31(0,-38.1) 32(2.54,-38.1) 33(0,-40.64) 34(2.54,-40.64) 35(0,-43.18) 36(2.54,-43.18) 37(0,-45.72) 38(2.54,-45.72) 39(0,-48.26) 40(2.54,-48.26) 41(0,-50.8) 42(2.54,-50.8) 43(0,-53.34) 44(2.54,-53.34) 45(0,-55.88) 46(2.54,-55.88) 47(0,-58.42) 48(2.54,-58.42) 49(0,-60.96) 50(2.54,-60.96) 51(0,-63.5) 52(2.54,-63.5) 53(0,-66.04) 54(2.54,-66.04)
F.SilkS:
  lines w0.254: -1.38,0 -1.38,1.38 0,1.38 ; -1.38,-67.42 3.92,-67.42 3.92,1.38 1.27,1.38 1.27,-1.27 -1.38,-1.27 -1.38,-67.42
Top Assembly:
  lines w0.254: -1.27,-67.31 3.81,-67.31 3.81,1.27 0,1.27 -1.27,0 -1.27,-67.31
  text "'.Designator'" at 2.11,-37.067 h1
Top Courtyard:
  lines w0.254: -1.77,-67.81 4.32,-67.81 4.32,1.77 -1.77,1.77 -1.77,-67.81
Top Designator:
  text ".Designator" at -6.343,-33.528 h1.52

## PinHeader_2x27_P2.54mm_Vertical_SMD [mm]
pads (54):
  rect 3.15x1 smd: 1(-2.525,33.02) 2(2.525,33.02) 3(-2.525,30.48) 4(2.525,30.48) 5(-2.525,27.94) 6(2.525,27.94) 7(-2.525,25.4) 8(2.525,25.4) 9(-2.525,22.86) 10(2.525,22.86) 11(-2.525,20.32) 12(2.525,20.32) 13(-2.525,17.78) 14(2.525,17.78) 15(-2.525,15.24) 16(2.525,15.24) 17(-2.525,12.7) 18(2.525,12.7) 19(-2.525,10.16) 20(2.525,10.16) 21(-2.525,7.62) 22(2.525,7.62) 23(-2.525,5.08) 24(2.525,5.08) 25(-2.525,2.54) 26(2.525,2.54) 27(-2.525,0) 28(2.525,0) 29(-2.525,-2.54) 30(2.525,-2.54) 31(-2.525,-5.08) 32(2.525,-5.08) 33(-2.525,-7.62) 34(2.525,-7.62) 35(-2.525,-10.16) 36(2.525,-10.16) 37(-2.525,-12.7) 38(2.525,-12.7) 39(-2.525,-15.24) 40(2.525,-15.24) 41(-2.525,-17.78) 42(2.525,-17.78) 43(-2.525,-20.32) 44(2.525,-20.32) 45(-2.525,-22.86) 46(2.525,-22.86) 47(-2.525,-25.4) 48(2.525,-25.4) 49(-2.525,-27.94) 50(2.525,-27.94) 51(-2.525,-30.48) 52(2.525,-30.48) 53(-2.525,-33.02) 54(2.525,-33.02)
F.SilkS:
  lines w0.254: -4.04,33.83 -2.65,33.83 -2.65,34.4 2.65,34.4 2.65,33.83 ; -2.65,-33.83 -2.65,-34.4 2.65,-34.4 2.65,-33.83 ; -2.65,-32.21 -2.65,-31.29 ; -2.65,-29.67 -2.65,-28.75 ; -2.65,-27.13 -2.65,-26.21 ; -2.65,-24.59 -2.65,-23.67 ; -2.65,-22.05 -2.65,-21.13 ; -2.65,-19.51 -2.65,-18.59 ; -2.65,-16.97 -2.65,-16.05 ; -2.65,-14.43 -2.65,-13.51 ; -2.65,-11.89 -2.65,-10.97 ; -2.65,-9.35 -2.65,-8.43 ; -2.65,-6.81 -2.65,-5.89 ; -2.65,-4.27 -2.65,-3.35 ; -2.65,-1.73 -2.65,-0.81 ; -2.65,0.81 -2.65,1.73 ; -2.65,3.35 -2.65,4.27 ; -2.65,5.89 -2.65,6.81 ; -2.65,8.43 -2.65,9.35 ; -2.65,10.97 -2.65,11.89 ; -2.65,13.51 -2.65,14.43 ; -2.65,16.05 -2.65,16.97 ; -2.65,18.59 -2.65,19.51 ; -2.65,21.13 -2.65,22.05 ; -2.65,23.67 -2.65,24.59 ; -2.65,26.21 -2.65,27.13 ; -2.65,28.75 -2.65,29.67 ; -2.65,31.29 -2.65,32.21 ; 2.65,-32.21 2.65,-31.29 ; 2.65,-29.67 2.65,-28.75 ; 2.65,-27.13 2.65,-26.21 ; 2.65,-24.59 2.65,-23.67 ; 2.65,-22.05 2.65,-21.13 ; 2.65,-19.51 2.65,-18.59 ; 2.65,-16.97 2.65,-16.05 ; 2.65,-14.43 2.65,-13.51 ; 2.65,-11.89 2.65,-10.97 ; 2.65,-9.35 2.65,-8.43 ; 2.65,-6.81 2.65,-5.89 ; 2.65,-4.27 2.65,-3.35 ; 2.65,-1.73 2.65,-0.81 ; 2.65,0.81 2.65,1.73 ; 2.65,3.35 2.65,4.27 ; 2.65,5.89 2.65,6.81 ; 2.65,8.43 2.65,9.35 ; 2.65,10.97 2.65,11.89 ; 2.65,13.51 2.65,14.43 ; 2.65,16.05 2.65,16.97 ; 2.65,18.59 2.65,19.51 ; 2.65,21.13 2.65,22.05 ; 2.65,23.67 2.65,24.59 ; 2.65,26.21 2.65,27.13 ; 2.65,28.75 2.65,29.67 ; 2.65,31.29 2.65,32.21
Top Assembly:
  drawing of 167 lines, arcs and shapes, not listed
  text "'.Designator'" at 0.84,-4.047 h1
Top Courtyard:
  lines w0.254: -5.87,-34.79 5.88,-34.79 5.88,34.79 -5.87,34.79 -5.87,-34.79
Top Designator:
  text ".Designator" at -7.613,-0.508 h1.52

## PinHeader_2x28_P2.54mm_Horizontal [mm]
pads (56):
  rect 1.7x1.7 hole 1: 1(0,0)
  round 1.7 hole 1: 2(2.54,0) 3(0,-2.54) 4(2.54,-2.54) 5(0,-5.08) 6(2.54,-5.08) 7(0,-7.62) 8(2.54,-7.62) 9(0,-10.16) 10(2.54,-10.16) 11(0,-12.7) 12(2.54,-12.7) 13(0,-15.24) 14(2.54,-15.24) 15(0,-17.78) 16(2.54,-17.78) 17(0,-20.32) 18(2.54,-20.32) 19(0,-22.86) 20(2.54,-22.86) 21(0,-25.4) 22(2.54,-25.4) 23(0,-27.94) 24(2.54,-27.94) 25(0,-30.48) 26(2.54,-30.48) 27(0,-33.02) 28(2.54,-33.02) 29(0,-35.56) 30(2.54,-35.56) 31(0,-38.1) 32(2.54,-38.1) 33(0,-40.64) 34(2.54,-40.64) 35(0,-43.18) 36(2.54,-43.18) 37(0,-45.72) 38(2.54,-45.72) 39(0,-48.26) 40(2.54,-48.26) 41(0,-50.8) 42(2.54,-50.8) 43(0,-53.34) 44(2.54,-53.34) 45(0,-55.88) 46(2.54,-55.88) 47(0,-58.42) 48(2.54,-58.42) 49(0,-60.96) 50(2.54,-60.96) 51(0,-63.5) 52(2.54,-63.5) 53(0,-66.04) 54(2.54,-66.04) 55(0,-68.58) 56(2.54,-68.58)
F.SilkS:
  drawing of 230 lines, arcs and shapes, not listed
Top Assembly:
  drawing of 173 lines, arcs and shapes, not listed
  text "'.Designator'" at 6.15,-38.337 h1
Top Courtyard:
  lines w0.254: -1.77,-70.35 13.09,-70.35 13.09,1.77 -1.77,1.77 -1.77,-70.35
Top Designator:
  text ".Designator" at -1.958,-34.798 h1.52